# Altium integrated library TI Power Management Current Limited Switch.IntLib: 83 symbols (part 3 of 4)
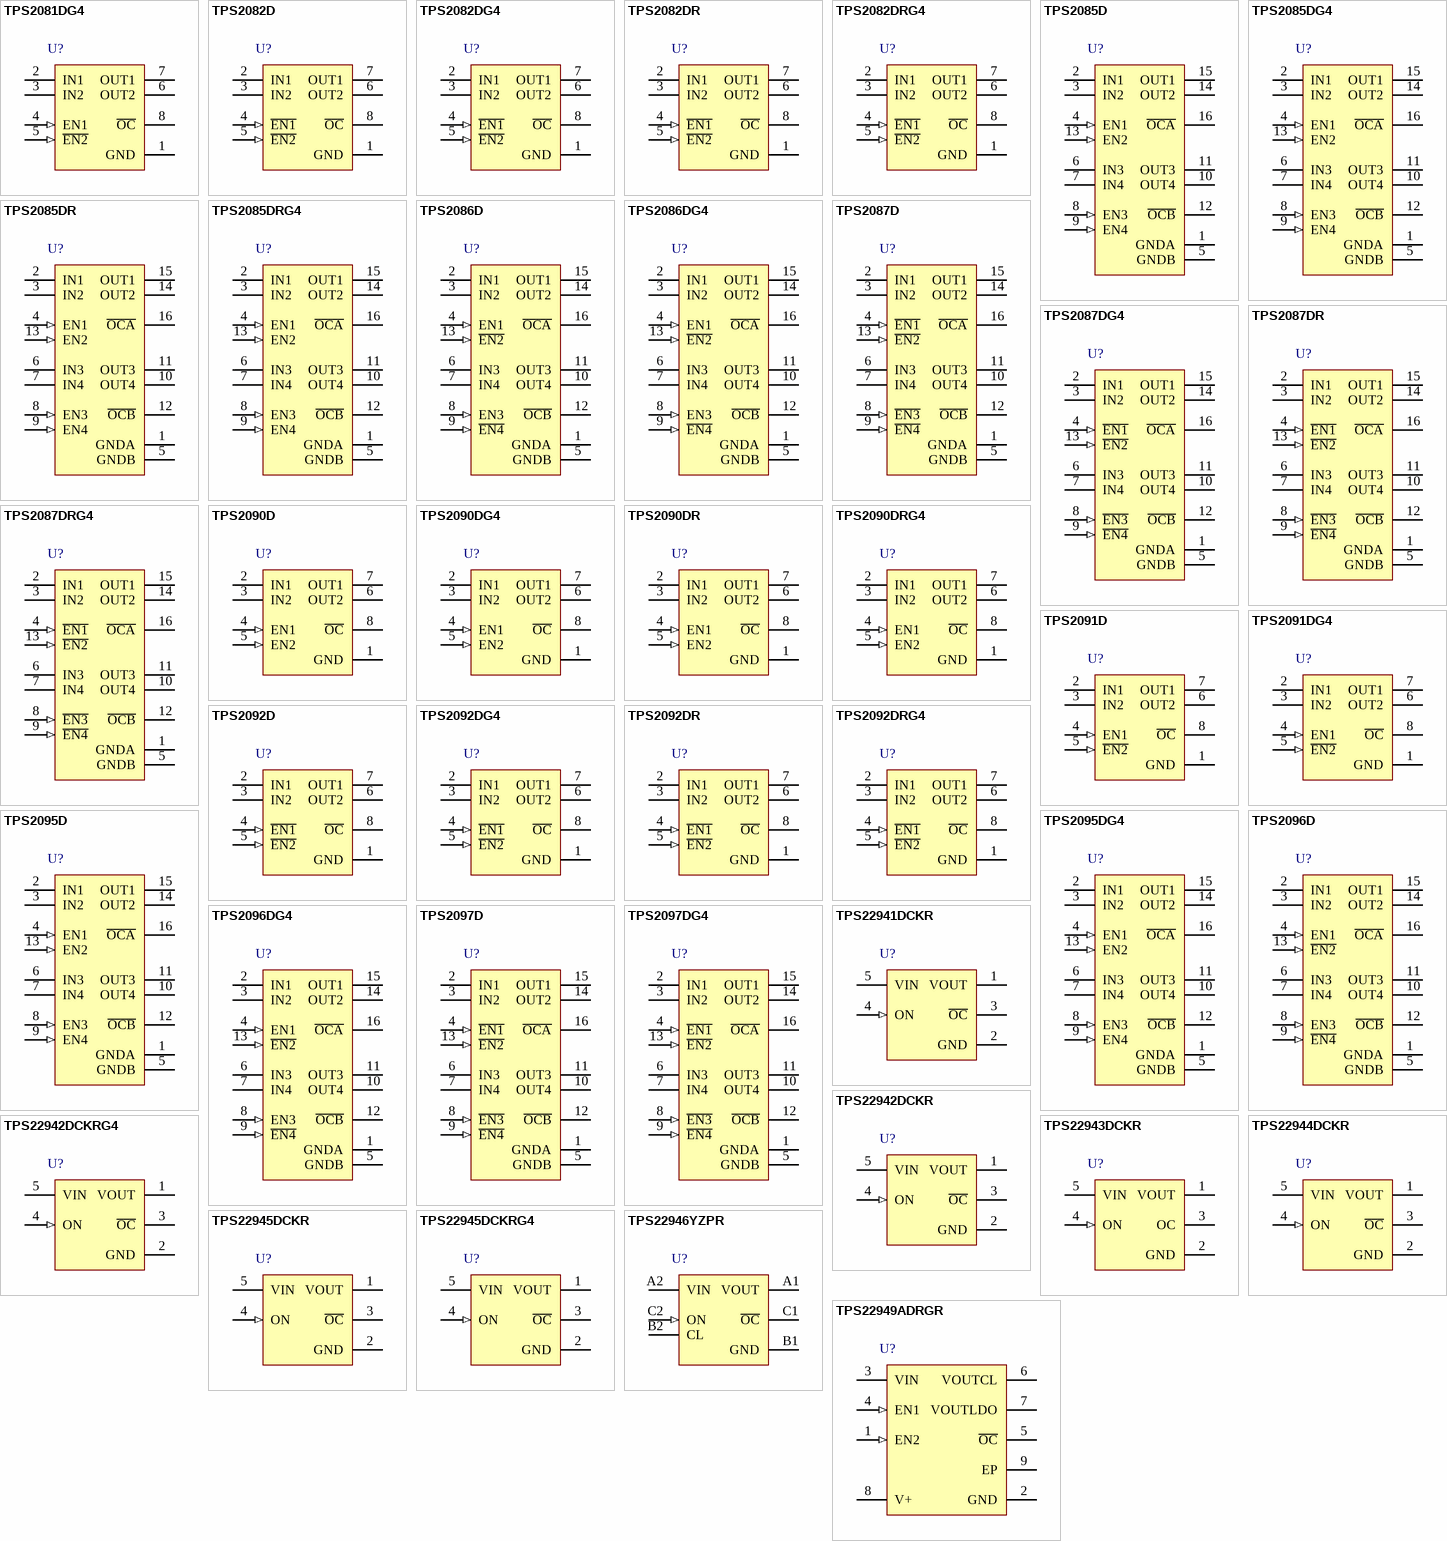
[diagram p4: symbols TPS2081DG4 to TPS22949ADRGR]

## TPS2090D
designator U?
0.3 A, 2.7 to 5.5 V Dual (2 Input / 2 Output) High-Side MOSFET Switch IC, Fault Reporting, 2 Act-Hi En, 80 mOhms rDS(On), 0 to 85 degC, 8-pin SOIC (D), Green (RoHS & no Sb/Br); Manufacturer: Texas Instruments; PartNumber: TPS2090D; Adjustable Current Limit(Min)(A): 0.3; Dual 2-Input, 2-Output": TRUE; Enable/Shutdown: 2H; Iq(Typ)(uA): 85; Number of FETs: 2; rDS(on) per FET(Typ)(mOhms): 80; SubFamily: Current Limited Switch; Vin(Max)(V): 5.5; Vin(Min)(V): 2.7; DatasheetVersion: SLVS245C; PackageVersion: revM, Jun-2011; PackageReference: D8; PackageDescription: 8-Pin Plastic Small Outline Integrated Circuit, 4.9 x 3.9 mm, Pitch 1.27 mm Pitch; Supplier 1: Digi-Key; Supplier Part Number 1: 296-3437-5-ND; Supplier 2: Newark; Supplier Part Number 2: 77C0053; Supplier 3: Mouser; Supplier Part Number 3: 595-TPS2090D; Eco-Plan: Green (RoHS & no Sb/Br); Over Current Reporting: TRUE; Over Temp Reporting: TRUE; Mounting Technology: Surface Mount; Code_JEDEC: MS-012AA; ComponentLink1Description: Datasheet; ComponentLink1URL: http://www.ti.com/general/docs/lit/getliterature.tsp?genericPartNumber=TPS2090&fileType=pdf
footprint D8_N (SOIC, 8-Leads, Body 4.9x3.9mm, Pitch 1.27mm, IPC Medium Density)
footprint D8_L (SOIC, 8-Leads, Body 4.9x3.9mm, Pitch 1.27mm, IPC High Density)
footprint D8_M (SOIC, 8-Leads, Body 4.9x3.9mm, Pitch 1.27mm, IPC Low Density)
pins: 1 GND (power) "Ground", 2 IN1 (power) "N-Channel MOSFET Drain", 3 IN2 (power) "N-Channel MOSFET Drain", 4 EN1 (in) "Enable input. Active high turns on power switch.", 5 EN2 (in) "Enable input. Active high turns on power switch.", 6 OUT2 (power) "Power-switch output", 7 OUT1 (power) "Power-switch output", 8 ~{OC} (oc) "Overcurrent. Open drain output active low"

## TPS2090DG4
designator U?
0.3 A, 2.7 to 5.5 V Dual (2 Input / 2 Output) High-Side MOSFET Switch IC, Fault Reporting, 2 Act-Hi En, 80 mOhms rDS(On), 0 to 85 degC, 8-pin SOIC (D), Green (RoHS & no Sb/Br); Manufacturer: Texas Instruments; PartNumber: TPS2090DG4; Adjustable Current Limit(Min)(A): 0.3; Dual 2-Input, 2-Output": TRUE; Enable/Shutdown: 2H; Iq(Typ)(uA): 85; Number of FETs: 2; rDS(on) per FET(Typ)(mOhms): 80; SubFamily: Current Limited Switch; Vin(Max)(V): 5.5; Vin(Min)(V): 2.7; DatasheetVersion: SLVS245C; PackageVersion: revM, Jun-2011; PackageReference: D8; PackageDescription: 8-Pin Plastic Small Outline Integrated Circuit, 4.9 x 3.9 mm, Pitch 1.27 mm Pitch; Supplier 1: Digi-Key; Supplier Part Number 1: TPS2090DG4-ND; Supplier 2: Newark; Supplier Part Number 2: 02M4303; Supplier 3: Mouser; Supplier Part Number 3: 595-TPS2090DG4; Eco-Plan: Green (RoHS & no Sb/Br); Over Current Reporting: TRUE; Over Temp Reporting: TRUE; Mounting Technology: Surface Mount; Code_JEDEC: MS-012AA; ComponentLink1Description: Datasheet; ComponentLink1URL: http://www.ti.com/general/docs/lit/getliterature.tsp?genericPartNumber=TPS2090&fileType=pdf
footprint D8_N (SOIC, 8-Leads, Body 4.9x3.9mm, Pitch 1.27mm, IPC Medium Density)
footprint D8_L (SOIC, 8-Leads, Body 4.9x3.9mm, Pitch 1.27mm, IPC High Density)
footprint D8_M (SOIC, 8-Leads, Body 4.9x3.9mm, Pitch 1.27mm, IPC Low Density)
pins: 1 GND (power) "Ground", 2 IN1 (power) "N-Channel MOSFET Drain", 3 IN2 (power) "N-Channel MOSFET Drain", 4 EN1 (in) "Enable input. Active high turns on power switch.", 5 EN2 (in) "Enable input. Active high turns on power switch.", 6 OUT2 (power) "Power-switch output", 7 OUT1 (power) "Power-switch output", 8 ~{OC} (oc) "Overcurrent. Open drain output active low"

## TPS2090DR
designator U?
0.3 A, 2.7 to 5.5 V Dual (2 Input / 2 Output) High-Side MOSFET Switch IC, Fault Reporting, 2 Act-Hi En, 80 mOhms rDS(On), 0 to 85 degC, 8-pin SOIC (D), Green (RoHS & no Sb/Br); Manufacturer: Texas Instruments; PartNumber: TPS2090DR; Adjustable Current Limit(Min)(A): 0.3; Dual 2-Input, 2-Output": TRUE; Enable/Shutdown: 2H; Iq(Typ)(uA): 85; Number of FETs: 2; rDS(on) per FET(Typ)(mOhms): 80; SubFamily: Current Limited Switch; Vin(Max)(V): 5.5; Vin(Min)(V): 2.7; DatasheetVersion: SLVS245C; PackageVersion: revM, Jun-2011; PackageReference: D8; PackageDescription: 8-Pin Plastic Small Outline Integrated Circuit, 4.9 x 3.9 mm, Pitch 1.27 mm Pitch; Supplier 1: Digi-Key; Supplier Part Number 1: TPS2090DR-ND; Supplier 2: Newark; Supplier Part Number 2: 77C0054; Supplier 3: Mouser; Supplier Part Number 3: 595-TPS2090DR; Eco-Plan: Green (RoHS & no Sb/Br); Over Current Reporting: TRUE; Over Temp Reporting: TRUE; Mounting Technology: Surface Mount; Code_JEDEC: MS-012AA; ComponentLink1Description: Datasheet; ComponentLink1URL: http://www.ti.com/general/docs/lit/getliterature.tsp?genericPartNumber=TPS2090&fileType=pdf
footprint D8_N (SOIC, 8-Leads, Body 4.9x3.9mm, Pitch 1.27mm, IPC Medium Density)
footprint D8_L (SOIC, 8-Leads, Body 4.9x3.9mm, Pitch 1.27mm, IPC High Density)
footprint D8_M (SOIC, 8-Leads, Body 4.9x3.9mm, Pitch 1.27mm, IPC Low Density)
pins: 1 GND (power) "Ground", 2 IN1 (power) "N-Channel MOSFET Drain", 3 IN2 (power) "N-Channel MOSFET Drain", 4 EN1 (in) "Enable input. Active high turns on power switch.", 5 EN2 (in) "Enable input. Active high turns on power switch.", 6 OUT2 (power) "Power-switch output", 7 OUT1 (power) "Power-switch output", 8 ~{OC} (oc) "Overcurrent. Open drain output active low"

## TPS2090DRG4
designator U?
0.3 A, 2.7 to 5.5 V Dual (2 Input / 2 Output) High-Side MOSFET Switch IC, Fault Reporting, 2 Act-Hi En, 80 mOhms rDS(On), 0 to 85 degC, 8-pin SOIC (D), Green (RoHS & no Sb/Br); Manufacturer: Texas Instruments; PartNumber: TPS2090DRG4; Adjustable Current Limit(Min)(A): 0.3; Dual 2-Input, 2-Output": TRUE; Enable/Shutdown: 2H; Iq(Typ)(uA): 85; Number of FETs: 2; rDS(on) per FET(Typ)(mOhms): 80; SubFamily: Current Limited Switch; Vin(Max)(V): 5.5; Vin(Min)(V): 2.7; DatasheetVersion: SLVS245C; PackageVersion: revM, Jun-2011; PackageReference: D8; PackageDescription: 8-Pin Plastic Small Outline Integrated Circuit, 4.9 x 3.9 mm, Pitch 1.27 mm Pitch; Supplier 1: Digi-Key; Supplier Part Number 1: TPS2090DRG4-ND; Supplier 2: Newark; Supplier Part Number 2: 33K7553; Supplier 3: Mouser; Supplier Part Number 3: 595-TPS2090DRG4; Eco-Plan: Green (RoHS & no Sb/Br); Over Current Reporting: TRUE; Over Temp Reporting: TRUE; Mounting Technology: Surface Mount; Code_JEDEC: MS-012AA; ComponentLink1Description: Datasheet; ComponentLink1URL: http://www.ti.com/general/docs/lit/getliterature.tsp?genericPartNumber=TPS2090&fileType=pdf
footprint D8_N (SOIC, 8-Leads, Body 4.9x3.9mm, Pitch 1.27mm, IPC Medium Density)
footprint D8_L (SOIC, 8-Leads, Body 4.9x3.9mm, Pitch 1.27mm, IPC High Density)
footprint D8_M (SOIC, 8-Leads, Body 4.9x3.9mm, Pitch 1.27mm, IPC Low Density)
pins: 1 GND (power) "Ground", 2 IN1 (power) "N-Channel MOSFET Drain", 3 IN2 (power) "N-Channel MOSFET Drain", 4 EN1 (in) "Enable input. Active high turns on power switch.", 5 EN2 (in) "Enable input. Active high turns on power switch.", 6 OUT2 (power) "Power-switch output", 7 OUT1 (power) "Power-switch output", 8 ~{OC} (oc) "Overcurrent. Open drain output active low"

## TPS2091D
designator U?
0.3 A, 2.7 to 5.5 V Dual (2 In / 2 Out) High-Side MOSFET Switch IC, Fault Report, 1 Act-Hi, 80 mOhms rDS(On), 0 to 85 degC, 8-pin SOIC (D), Green (RoHS & no Sb/Br); Manufacturer: Texas Instruments; PartNumber: TPS2091D; Adjustable Current Limit(Min)(A): 0.3; Dual 2-Input, 2-Output": TRUE; Enable/Shutdown: 1L, 1H; Iq(Typ)(uA): 85; Number of FETs: 2; rDS(on) per FET(Typ)(mOhms): 80; SubFamily: Current Limited Switch; Vin(Max)(V): 5.5; Vin(Min)(V): 2.7; DatasheetVersion: SLVS245C; PackageVersion: revM, Jun-2011; PackageReference: D8; PackageDescription: 8-Pin Plastic Small Outline Integrated Circuit, 4.9 x 3.9 mm, Pitch 1.27 mm Pitch; Supplier 1: Digi-Key; Supplier Part Number 1: 296-3438-5-ND; Supplier 2: Newark; Supplier Part Number 2: 77C0055; Supplier 3: Mouser; Supplier Part Number 3: 595-TPS2091D; Eco-Plan: Green (RoHS & no Sb/Br); Over Current Reporting: TRUE; Over Temp Reporting: TRUE; Mounting Technology: Surface Mount; Code_JEDEC: MS-012AA; ComponentLink1Description: Datasheet; ComponentLink1URL: http://www.ti.com/general/docs/lit/getliterature.tsp?genericPartNumber=TPS2091&fileType=pdf
footprint D8_N (SOIC, 8-Leads, Body 4.9x3.9mm, Pitch 1.27mm, IPC Medium Density)
footprint D8_L (SOIC, 8-Leads, Body 4.9x3.9mm, Pitch 1.27mm, IPC High Density)
footprint D8_M (SOIC, 8-Leads, Body 4.9x3.9mm, Pitch 1.27mm, IPC Low Density)
pins: 1 GND (power) "Ground", 2 IN1 (power) "N-Channel MOSFET Drain", 3 IN2 (power) "N-Channel MOSFET Drain", 4 EN1 (in) "Enable input. Active high turns on power switch.", 5 ~{EN2} (in) "Enable input. Active low turns on power switch.", 6 OUT2 (power) "Power-switch output", 7 OUT1 (power) "Power-switch output", 8 ~{OC} (oc) "Overcurrent. Open drain output active low"

## TPS2091DG4
designator U?
0.3 A, 2.7 to 5.5 V Dual (2 In / 2 Out) High-Side MOSFET Switch IC, Fault Report, 1 Act-Hi, 1 Act-Lo En, 80 mOhms rDS(On), 0 to 85 degC, 8-pin SOIC (D), Green (RoHS & no Sb/Br); Manufacturer: Texas Instruments; PartNumber: TPS2091DG4; Adjustable Current Limit(Min)(A): 0.3; Dual 2-Input, 2-Output": TRUE; Enable/Shutdown: 1L, 1H; Iq(Typ)(uA): 85; Number of FETs: 2; rDS(on) per FET(Typ)(mOhms): 80; SubFamily: Current Limited Switch; Vin(Max)(V): 5.5; Vin(Min)(V): 2.7; DatasheetVersion: SLVS245C; PackageVersion: revM, Jun-2011; PackageReference: D8; PackageDescription: 8-Pin Plastic Small Outline Integrated Circuit, 4.9 x 3.9 mm, Pitch 1.27 mm Pitch; Supplier 1: Digi-Key; Supplier Part Number 1: TPS2091DG4-ND; Supplier 2: Newark; Supplier Part Number 2: 70K5700; Supplier 3: Mouser; Supplier Part Number 3: 595-TPS2091DG4; Eco-Plan: Green (RoHS & no Sb/Br); Over Current Reporting: TRUE; Over Temp Reporting: TRUE; Mounting Technology: Surface Mount; Code_JEDEC: MS-012AA; ComponentLink1Description: Datasheet; ComponentLink1URL: http://www.ti.com/general/docs/lit/getliterature.tsp?genericPartNumber=TPS2091&fileType=pdf
footprint D8_N (SOIC, 8-Leads, Body 4.9x3.9mm, Pitch 1.27mm, IPC Medium Density)
footprint D8_L (SOIC, 8-Leads, Body 4.9x3.9mm, Pitch 1.27mm, IPC High Density)
footprint D8_M (SOIC, 8-Leads, Body 4.9x3.9mm, Pitch 1.27mm, IPC Low Density)
pins: 1 GND (power) "Ground", 2 IN1 (power) "N-Channel MOSFET Drain", 3 IN2 (power) "N-Channel MOSFET Drain", 4 EN1 (in) "Enable input. Active high turns on power switch.", 5 ~{EN2} (in) "Enable input. Active low turns on power switch.", 6 OUT2 (power) "Power-switch output", 7 OUT1 (power) "Power-switch output", 8 ~{OC} (oc) "Overcurrent. Open drain output active low"

## TPS2092D
designator U?
0.3 A, 2.7 to 5.5 V Dual (2 Input / 2 Output) High-Side MOSFET Switch IC, Fault Reporting, 80 mOhms rDS(On), 0 to 85 degC, 8-pin SOIC (D), Green (RoHS & no Sb/Br); Manufacturer: Texas Instruments; PartNumber: TPS2092D; Adjustable Current Limit(Min)(A): 0.3; Dual 2-Input, 2-Output": TRUE; Enable/Shutdown: 2L; Iq(Typ)(uA): 85; Number of FETs: 2; rDS(on) per FET(Typ)(mOhms): 80; SubFamily: Current Limited Switch; Vin(Max)(V): 5.5; Vin(Min)(V): 2.7; DatasheetVersion: SLVS245C; PackageVersion: revM, Jun-2011; PackageReference: D8; PackageDescription: 8-Pin Plastic Small Outline Integrated Circuit, 4.9 x 3.9 mm, Pitch 1.27 mm Pitch; Supplier 1: Digi-Key; Supplier Part Number 1: 296-3439-5-ND; Supplier 2: Newark; Supplier Part Number 2: 77C0057; Supplier 3: Mouser; Supplier Part Number 3: 595-TPS2092D; Eco-Plan: Green (RoHS & no Sb/Br); Over Current Reporting: TRUE; Over Temp Reporting: TRUE; Mounting Technology: Surface Mount; Code_JEDEC: MS-012AA; ComponentLink1Description: Datasheet; ComponentLink1URL: http://www.ti.com/general/docs/lit/getliterature.tsp?genericPartNumber=TPS2092&fileType=pdf
footprint D8_N (SOIC, 8-Leads, Body 4.9x3.9mm, Pitch 1.27mm, IPC Medium Density)
footprint D8_L (SOIC, 8-Leads, Body 4.9x3.9mm, Pitch 1.27mm, IPC High Density)
footprint D8_M (SOIC, 8-Leads, Body 4.9x3.9mm, Pitch 1.27mm, IPC Low Density)
pins: 1 GND (power) "Ground", 2 IN1 (power) "N-Channel MOSFET Drain", 3 IN2 (power) "N-Channel MOSFET Drain", 4 ~{EN1} (in) "Enable input. Active low turns on power switch", 5 ~{EN2} (in) "Enable input. Active low turns on power switch", 6 OUT2 (power) "Power-switch output", 7 OUT1 (power) "Power-switch output", 8 ~{OC} (oc) "Overcurrent. Open drain output active low"

## TPS2092DG4
designator U?
0.3 A, 2.7 to 5.5 V Dual (2 Input / 2 Output) High-Side MOSFET Switch IC, Fault Reporting, 80 mOhms rDS(On), 0 to 85 degC, 8-pin SOIC (D), Green (RoHS & no Sb/Br); Manufacturer: Texas Instruments; PartNumber: TPS2092DG4; Adjustable Current Limit(Min)(A): 0.3; Dual 2-Input, 2-Output": TRUE; Enable/Shutdown: 2L; Iq(Typ)(uA): 85; Number of FETs: 2; rDS(on) per FET(Typ)(mOhms): 80; SubFamily: Current Limited Switch; Vin(Max)(V): 5.5; Vin(Min)(V): 2.7; DatasheetVersion: SLVS245C; PackageVersion: revM, Jun-2011; PackageReference: D8; PackageDescription: 8-Pin Plastic Small Outline Integrated Circuit, 4.9 x 3.9 mm, Pitch 1.27 mm Pitch; Supplier 1: Digi-Key; Supplier Part Number 1: TPS2092DG4-ND; Supplier 2: Newark; Supplier Part Number 2: 81K4132; Supplier 3: Mouser; Supplier Part Number 3: 595-TPS2092DG4; Eco-Plan: Green (RoHS & no Sb/Br); Over Current Reporting: TRUE; Over Temp Reporting: TRUE; Mounting Technology: Surface Mount; Code_JEDEC: MS-012AA; ComponentLink1Description: Datasheet; ComponentLink1URL: http://www.ti.com/general/docs/lit/getliterature.tsp?genericPartNumber=TPS2092&fileType=pdf
footprint D8_N (SOIC, 8-Leads, Body 4.9x3.9mm, Pitch 1.27mm, IPC Medium Density)
footprint D8_L (SOIC, 8-Leads, Body 4.9x3.9mm, Pitch 1.27mm, IPC High Density)
footprint D8_M (SOIC, 8-Leads, Body 4.9x3.9mm, Pitch 1.27mm, IPC Low Density)
pins: 1 GND (power) "Ground", 2 IN1 (power) "N-Channel MOSFET Drain", 3 IN2 (power) "N-Channel MOSFET Drain", 4 ~{EN1} (in) "Enable input. Active low turns on power switch", 5 ~{EN2} (in) "Enable input. Active low turns on power switch", 6 OUT2 (power) "Power-switch output", 7 OUT1 (power) "Power-switch output", 8 ~{OC} (oc) "Overcurrent. Open drain output active low"

## TPS2092DR
designator U?
0.3 A, 2.7 to 5.5 V Dual (2 Input / 2 Output) High-Side MOSFET Switch IC, Fault Reporting, 80 mOhms rDS(On), 0 to 85 degC, 8-pin SOIC (D), Green (RoHS & no Sb/Br); Manufacturer: Texas Instruments; PartNumber: TPS2092DR; Adjustable Current Limit(Min)(A): 0.3; Dual 2-Input, 2-Output": TRUE; Enable/Shutdown: 2L; Iq(Typ)(uA): 85; Number of FETs: 2; rDS(on) per FET(Typ)(mOhms): 80; SubFamily: Current Limited Switch; Vin(Max)(V): 5.5; Vin(Min)(V): 2.7; DatasheetVersion: SLVS245C; PackageVersion: revM, Jun-2011; PackageReference: D8; PackageDescription: 8-Pin Plastic Small Outline Integrated Circuit, 4.9 x 3.9 mm, Pitch 1.27 mm Pitch; Supplier 1: Digi-Key; Supplier Part Number 1: TPS2092DR-ND; Supplier 2: Newark; Supplier Part Number 2: 77C0058; Supplier 3: Mouser; Supplier Part Number 3: 595-TPS2092DR; Eco-Plan: Green (RoHS & no Sb/Br); Over Current Reporting: TRUE; Over Temp Reporting: TRUE; Mounting Technology: Surface Mount; Code_JEDEC: MS-012AA; ComponentLink1Description: Datasheet; ComponentLink1URL: http://www.ti.com/general/docs/lit/getliterature.tsp?genericPartNumber=TPS2092&fileType=pdf
footprint D8_N (SOIC, 8-Leads, Body 4.9x3.9mm, Pitch 1.27mm, IPC Medium Density)
footprint D8_L (SOIC, 8-Leads, Body 4.9x3.9mm, Pitch 1.27mm, IPC High Density)
footprint D8_M (SOIC, 8-Leads, Body 4.9x3.9mm, Pitch 1.27mm, IPC Low Density)
pins: 1 GND (power) "Ground", 2 IN1 (power) "N-Channel MOSFET Drain", 3 IN2 (power) "N-Channel MOSFET Drain", 4 ~{EN1} (in) "Enable input. Active low turns on power switch", 5 ~{EN2} (in) "Enable input. Active low turns on power switch", 6 OUT2 (power) "Power-switch output", 7 OUT1 (power) "Power-switch output", 8 ~{OC} (oc) "Overcurrent. Open drain output active low"

## TPS2092DRG4
designator U?
0.3 A, 2.7 to 5.5 V Dual (2 Input / 2 Output) High-Side MOSFET Switch IC, Fault Reporting, 80 mOhms rDS(On), 0 to 85 degC, 8-pin SOIC (D), Green (RoHS & no Sb/Br); Manufacturer: Texas Instruments; PartNumber: TPS2092DRG4; Adjustable Current Limit(Min)(A): 0.3; Dual 2-Input, 2-Output": TRUE; Enable/Shutdown: 2L; Iq(Typ)(uA): 85; Number of FETs: 2; rDS(on) per FET(Typ)(mOhms): 80; SubFamily: Current Limited Switch; Vin(Max)(V): 5.5; Vin(Min)(V): 2.7; DatasheetVersion: SLVS245C; PackageVersion: revM, Jun-2011; PackageReference: D8; PackageDescription: 8-Pin Plastic Small Outline Integrated Circuit, 4.9 x 3.9 mm, Pitch 1.27 mm Pitch; Supplier 1: Digi-Key; Supplier Part Number 1: TPS2092DRG4-ND; Supplier 2: Newark; Supplier Part Number 2: 33K7555; Supplier 3: Mouser; Supplier Part Number 3: 595-TPS2092DRG4; Eco-Plan: Green (RoHS & no Sb/Br); Over Current Reporting: TRUE; Over Temp Reporting: TRUE; Mounting Technology: Surface Mount; Code_JEDEC: MS-012AA; ComponentLink1Description: Datasheet; ComponentLink1URL: http://www.ti.com/general/docs/lit/getliterature.tsp?genericPartNumber=TPS2092&fileType=pdf
footprint D8_N (SOIC, 8-Leads, Body 4.9x3.9mm, Pitch 1.27mm, IPC Medium Density)
footprint D8_L (SOIC, 8-Leads, Body 4.9x3.9mm, Pitch 1.27mm, IPC High Density)
footprint D8_M (SOIC, 8-Leads, Body 4.9x3.9mm, Pitch 1.27mm, IPC Low Density)
pins: 1 GND (power) "Ground", 2 IN1 (power) "N-Channel MOSFET Drain", 3 IN2 (power) "N-Channel MOSFET Drain", 4 ~{EN1} (in) "Enable input. Active low turns on power switch", 5 ~{EN2} (in) "Enable input. Active low turns on power switch", 6 OUT2 (power) "Power-switch output", 7 OUT1 (power) "Power-switch output", 8 ~{OC} (oc) "Overcurrent. Open drain output active low"

## TPS2095D
designator U?
0.3 A, 2.7 to 5.5 V Quad (4 Input / 4 Output) High-Side MOSFET Switch IC, Fault Reporting, 4 Act-Hi En, 80 mOhms rDS(On), 0 to 85 degC, 16-pin SOIC (D), Green (RoHS & no Sb/Br); Manufacturer: Texas Instruments; PartNumber: TPS2095D; Adjustable Current Limit(Min)(A): 0.3; Enable/Shutdown: 4H; Iq(Typ)(uA): 85; Number of FETs: 4; Over Current Reporting: TRUE; rDS(on) per FET(Typ)(mOhms): 80; SubFamily: Current Limited Switch; Vin(Max)(V): 5.5; Vin(Min)(V): 2.7; DatasheetVersion: SLVS245C; PackageVersion: revM, Jun-2011; PackageReference: D16; PackageDescription: 16-Pin Plastic Small Outline Integrated Circuit, 9.9 x 3.9 mm, Pitch 1.27 mm Pitch; Supplier 1: Digi-Key; Supplier Part Number 1: 296-3440-5-ND; Supplier 2: Newark; Supplier Part Number 2: 77C0059; Supplier 3: Mouser; Supplier Part Number 3: 595-TPS2095D; Eco-Plan: Green (RoHS & no Sb/Br); Over Temp Reporting: TRUE; Quad 4-Input, 4-Output: TRUE; Mounting Technology: Surface Mount; Code_JEDEC: MS-012AC; ComponentLink1Description: Datasheet; ComponentLink1URL: http://www.ti.com/general/docs/lit/getliterature.tsp?genericPartNumber=TPS2095&fileType=pdf
footprint D16_N (SOIC, 16-Leads, Body 9.9x3.9mm, Pitch 1.27mm, IPC Medium Density)
footprint D16_L (SOIC, 16-Leads, Body 9.9x3.9mm, Pitch 1.27mm, IPC High Density)
footprint D16_M (SOIC, 16-Leads, Body 9.9x3.9mm, Pitch 1.27mm, IPC Low Density)
pins: 1 GNDA (power) "Ground for IN1 and IN2 switch and circuitry", 2 IN1 (power) "N-channel MOSFET drain", 3 IN2 (power) "N-channel MOSFET drain", 4 EN1 (in) "Enable input. Active high turns on power switch", 5 GNDB (power) "Ground for IN3 and IN4 switch and circuitry", 6 IN3 (power) "N-channel MOSFET drain", 7 IN4 (power) "N-channel MOSFET drain", 8 EN3 (in) "Enable input. Active high turns on power switch", 9 EN4 (in) "Enable input. Active high turns on power switch", 10 OUT4 (power) "Power-switch output", 11 OUT3 (power) "Power-switch output", 12 ~{OCB} (oc) "Overcurrent indicator for switch 3 and switch 4. Active low open drain output", 13 EN2 (in) "Enable input. Active high turns on power switch", 14 OUT2 (power) "Power-switch output", 15 OUT1 (power) "Power-switch output", 16 ~{OCA} (oc) "Overcurrent indicator for switch 1 and switch 2. Active-low open drain output"

## TPS2095DG4
designator U?
0.3 A, 2.7 to 5.5 V Quad (4 Input / 4 Output) High-Side MOSFET Switch IC, Fault Reporting, 4 Act-Hi En, 80 mOhms rDS(On), 0 to 85 degC, 16-pin SOIC (D), Green (RoHS & no Sb/Br); Manufacturer: Texas Instruments; PartNumber: TPS2095DG4; Adjustable Current Limit(Min)(A): 0.3; Enable/Shutdown: 4H; Iq(Typ)(uA): 85; Number of FETs: 4; Over Current Reporting: TRUE; rDS(on) per FET(Typ)(mOhms): 80; SubFamily: Current Limited Switch; Vin(Max)(V): 5.5; Vin(Min)(V): 2.7; DatasheetVersion: SLVS245C; PackageVersion: revM, Jun-2011; PackageReference: D16; PackageDescription: 16-Pin Plastic Small Outline Integrated Circuit, 9.9 x 3.9 mm, Pitch 1.27 mm Pitch; Supplier 1: Digi-Key; Supplier Part Number 1: TPS2095DG4-ND; Supplier 2: Newark; Supplier Part Number 2: 28M7810; Supplier 3: Mouser; Supplier Part Number 3: 595-TPS2095DG4; Eco-Plan: Green (RoHS & no Sb/Br); Over Temp Reporting: TRUE; Quad 4-Input, 4-Output: TRUE; Mounting Technology: Surface Mount; Code_JEDEC: MS-012AC; ComponentLink1Description: Datasheet; ComponentLink1URL: http://www.ti.com/general/docs/lit/getliterature.tsp?genericPartNumber=TPS2095&fileType=pdf
footprint D16_N (SOIC, 16-Leads, Body 9.9x3.9mm, Pitch 1.27mm, IPC Medium Density)
footprint D16_L (SOIC, 16-Leads, Body 9.9x3.9mm, Pitch 1.27mm, IPC High Density)
footprint D16_M (SOIC, 16-Leads, Body 9.9x3.9mm, Pitch 1.27mm, IPC Low Density)
pins: 1 GNDA (power) "Ground for IN1 and IN2 switch and circuitry", 2 IN1 (power) "N-channel MOSFET drain", 3 IN2 (power) "N-channel MOSFET drain", 4 EN1 (in) "Enable input. Active high turns on power switch", 5 GNDB (power) "Ground for IN3 and IN4 switch and circuitry", 6 IN3 (power) "N-channel MOSFET drain", 7 IN4 (power) "N-channel MOSFET drain", 8 EN3 (in) "Enable input. Active high turns on power switch", 9 EN4 (in) "Enable input. Active high turns on power switch", 10 OUT4 (power) "Power-switch output", 11 OUT3 (power) "Power-switch output", 12 ~{OCB} (oc) "Overcurrent indicator for switch 3 and switch 4. Active low open drain output", 13 EN2 (in) "Enable input. Active high turns on power switch", 14 OUT2 (power) "Power-switch output", 15 OUT1 (power) "Power-switch output", 16 ~{OCA} (oc) "Overcurrent indicator for switch 1 and switch 2. Active-low open drain output"

## TPS2096D
designator U?
0.3 A, 2.7 to 5.5 V Quad (4 In / 4 Out) High-Side MOSFET Switch IC, Fault Report, 2 Act-Hi, 80 mOhms rDS(On), 0 to 85 degC, 16-pin SOIC (D), Green (RoHS & no Sb/Br); Manufacturer: Texas Instruments; PartNumber: TPS2096D; Adjustable Current Limit(Min)(A): 0.3; Enable/Shutdown: 2L, 2H; Iq(Typ)(uA): 85; Number of FETs: 4; Over Current Reporting: TRUE; rDS(on) per FET(Typ)(mOhms): 80; SubFamily: Current Limited Switch; Vin(Max)(V): 5.5; Vin(Min)(V): 2.7; DatasheetVersion: SLVS245C; PackageVersion: revM, Jun-2011; PackageReference: D16; PackageDescription: 16-Pin Plastic Small Outline Integrated Circuit, 9.9 x 3.9 mm, Pitch 1.27 mm Pitch; Supplier 1: Digi-Key; Supplier Part Number 1: 296-3441-5-ND; Supplier 2: Farnell; Supplier Part Number 2: 1755546; Supplier 3: Newark; Supplier Part Number 3: 34R9174; Supplier 4: Newark; Supplier Part Number 4: 77C0061; Supplier 5: Mouser; Supplier Part Number 5: 595-TPS2096D; Eco-Plan: Green (RoHS & no Sb/Br); Over Temp Reporting: TRUE; Quad 4-Input, 4-Output: TRUE; Mounting Technology: Surface Mount; Code_JEDEC: MS-012AC; ComponentLink1Description: Datasheet; ComponentLink1URL: http://www.ti.com/general/docs/lit/getliterature.tsp?genericPartNumber=TPS2096&fileType=pdf
footprint D16_N (SOIC, 16-Leads, Body 9.9x3.9mm, Pitch 1.27mm, IPC Medium Density)
footprint D16_L (SOIC, 16-Leads, Body 9.9x3.9mm, Pitch 1.27mm, IPC High Density)
footprint D16_M (SOIC, 16-Leads, Body 9.9x3.9mm, Pitch 1.27mm, IPC Low Density)
pins: 1 GNDA (power) "Ground for IN1 and IN2 switch and circuitry", 2 IN1 (power) "N-channel MOSFET drain", 3 IN2 (power) "N-channel MOSFET drain", 4 EN1 (in) "Enable input. Active high turns on power switch", 5 GNDB (power) "Ground for IN3 and IN4 switch and circuitry", 6 IN3 (power) "N-channel MOSFET drain", 7 IN4 (power) "N-channel MOSFET drain", 8 EN3 (in) "Enable input. Active high turns on power switch", 9 ~{EN4} (in) "Enable input. Active low turns on power switch", 10 OUT4 (power) "Power-switch output", 11 OUT3 (power) "Power-switch output", 12 ~{OCB} (oc) "Overcurrent indicator for switch 3 and switch 4. Active low open drain output", 13 ~{EN2} (in) "Enable input. Active low turns on power switch", 14 OUT2 (power) "Power-switch output", 15 OUT1 (power) "Power-switch output", 16 ~{OCA} (oc) "Overcurrent indicator for switch 1 and switch 2. Active-low open drain output"

## TPS2096DG4
designator U?
0.3 A, 2.7 to 5.5 V Quad (4 In / 4 Out) High-Side MOSFET Switch IC, Fault Report, 2 Act-Hi, 80 mOhms rDS(On), 0 to 85 degC, 16-pin SOIC (D), Green (RoHS & no Sb/Br); Manufacturer: Texas Instruments; PartNumber: TPS2096DG4; Adjustable Current Limit(Min)(A): 0.3; Enable/Shutdown: 2L, 2H; Iq(Typ)(uA): 85; Number of FETs: 4; Over Current Reporting: TRUE; rDS(on) per FET(Typ)(mOhms): 80; SubFamily: Current Limited Switch; Vin(Max)(V): 5.5; Vin(Min)(V): 2.7; DatasheetVersion: SLVS245C; PackageVersion: revM, Jun-2011; PackageReference: D16; PackageDescription: 16-Pin Plastic Small Outline Integrated Circuit, 9.9 x 3.9 mm, Pitch 1.27 mm Pitch; Supplier 1: Digi-Key; Supplier Part Number 1: TPS2096DG4-ND; Supplier 2: Newark; Supplier Part Number 2: 33K7557; Supplier 3: Mouser; Supplier Part Number 3: 595-TPS2096DG4; Eco-Plan: Green (RoHS & no Sb/Br); Over Temp Reporting: TRUE; Quad 4-Input, 4-Output: TRUE; Mounting Technology: Surface Mount; Code_JEDEC: MS-012AC; ComponentLink1Description: Datasheet; ComponentLink1URL: http://www.ti.com/general/docs/lit/getliterature.tsp?genericPartNumber=TPS2096&fileType=pdf
footprint D16_N (SOIC, 16-Leads, Body 9.9x3.9mm, Pitch 1.27mm, IPC Medium Density)
footprint D16_L (SOIC, 16-Leads, Body 9.9x3.9mm, Pitch 1.27mm, IPC High Density)
footprint D16_M (SOIC, 16-Leads, Body 9.9x3.9mm, Pitch 1.27mm, IPC Low Density)
pins: 1 GNDA (power) "Ground for IN1 and IN2 switch and circuitry", 2 IN1 (power) "N-channel MOSFET drain", 3 IN2 (power) "N-channel MOSFET drain", 4 EN1 (in) "Enable input. Active high turns on power switch", 5 GNDB (power) "Ground for IN3 and IN4 switch and circuitry", 6 IN3 (power) "N-channel MOSFET drain", 7 IN4 (power) "N-channel MOSFET drain", 8 EN3 (in) "Enable input. Active high turns on power switch", 9 ~{EN4} (in) "Enable input. Active low turns on power switch", 10 OUT4 (power) "Power-switch output", 11 OUT3 (power) "Power-switch output", 12 ~{OCB} (oc) "Overcurrent indicator for switch 3 and switch 4. Active low open drain output", 13 ~{EN2} (in) "Enable input. Active low turns on power switch", 14 OUT2 (power) "Power-switch output", 15 OUT1 (power) "Power-switch output", 16 ~{OCA} (oc) "Overcurrent indicator for switch 1 and switch 2. Active-low open drain output"

## TPS2097D
designator U?
0.3 A, 2.7 to 5.5 V Quad (4 Input / 4 Output) High-Side MOSFET Switch IC, Fault Reporting, 80 mOhms rDS(On), 0 to 85 degC, 16-pin SOIC (D), Green (RoHS & no Sb/Br); Manufacturer: Texas Instruments; PartNumber: TPS2097D; Adjustable Current Limit(Min)(A): 0.3; Enable/Shutdown: 4L; Iq(Typ)(uA): 85; Number of FETs: 4; Over Current Reporting: TRUE; rDS(on) per FET(Typ)(mOhms): 80; SubFamily: Current Limited Switch; Vin(Max)(V): 5.5; Vin(Min)(V): 2.7; DatasheetVersion: SLVS245C; PackageVersion: revM, Jun-2011; PackageReference: D16; PackageDescription: 16-Pin Plastic Small Outline Integrated Circuit, 9.9 x 3.9 mm, Pitch 1.27 mm Pitch; Supplier 1: Digi-Key; Supplier Part Number 1: 296-3442-5-ND; Supplier 2: Newark; Supplier Part Number 2: 77C0063; Supplier 3: Mouser; Supplier Part Number 3: 595-TPS2097D; Eco-Plan: Green (RoHS & no Sb/Br); Over Temp Reporting: TRUE; Quad 4-Input, 4-Output: TRUE; Mounting Technology: Surface Mount; Code_JEDEC: MS-012AC; ComponentLink1Description: Datasheet; ComponentLink1URL: http://www.ti.com/general/docs/lit/getliterature.tsp?genericPartNumber=TPS2097&fileType=pdf
footprint D16_N (SOIC, 16-Leads, Body 9.9x3.9mm, Pitch 1.27mm, IPC Medium Density)
footprint D16_L (SOIC, 16-Leads, Body 9.9x3.9mm, Pitch 1.27mm, IPC High Density)
footprint D16_M (SOIC, 16-Leads, Body 9.9x3.9mm, Pitch 1.27mm, IPC Low Density)
pins: 1 GNDA (power) "Ground for IN1 and IN2 switch and circuitry", 2 IN1 (power) "N-channel MOSFET drain", 3 IN2 (power) "N-channel MOSFET drain", 4 ~{EN1} (in) "Enable input. Active low turns on power switch", 5 GNDB (power) "Ground for IN3 and IN4 switch and circuitry", 6 IN3 (power) "N-channel MOSFET drain", 7 IN4 (power) "N-channel MOSFET drain", 8 ~{EN3} (in) "Enable input. Active low turns on power switch", 9 ~{EN4} (in) "Enable input. Active low turns on power switch", 10 OUT4 (power) "Power-switch output", 11 OUT3 (power) "Power-switch output", 12 ~{OCB} (oc) "Overcurrent indicator for switch 3 and switch 4. Active low open drain output", 13 ~{EN2} (in) "Enable input. Active low turns on power switch.", 14 OUT2 (power) "Power-switch output", 15 OUT1 (power) "Power-switch output", 16 ~{OCA} (oc) "Overcurrent indicator for switch 1 and switch 2. Active-low open drain output"

## TPS2097DG4
designator U?
0.3 A, 2.7 to 5.5 V Quad (4 Input / 4 Output) High-Side MOSFET Switch IC, Fault Reporting, 80 mOhms rDS(On), 0 to 85 degC, 16-pin SOIC (D), Green (RoHS & no Sb/Br); Manufacturer: Texas Instruments; PartNumber: TPS2097DG4; Adjustable Current Limit(Min)(A): 0.3; Enable/Shutdown: 4L; Iq(Typ)(uA): 85; Number of FETs: 4; Over Current Reporting: TRUE; rDS(on) per FET(Typ)(mOhms): 80; SubFamily: Current Limited Switch; Vin(Max)(V): 5.5; Vin(Min)(V): 2.7; DatasheetVersion: SLVS245C; PackageVersion: revM, Jun-2011; PackageReference: D16; PackageDescription: 16-Pin Plastic Small Outline Integrated Circuit, 9.9 x 3.9 mm, Pitch 1.27 mm Pitch; Supplier 1: Digi-Key; Supplier Part Number 1: TPS2097DG4-ND; Supplier 2: Newark; Supplier Part Number 2: 54K1552; Supplier 3: Mouser; Supplier Part Number 3: 595-TPS2097DG4; Eco-Plan: Green (RoHS & no Sb/Br); Over Temp Reporting: TRUE; Quad 4-Input, 4-Output: TRUE; Mounting Technology: Surface Mount; Code_JEDEC: MS-012AC; ComponentLink1Description: Datasheet; ComponentLink1URL: http://www.ti.com/general/docs/lit/getliterature.tsp?genericPartNumber=TPS2097&fileType=pdf
footprint D16_N (SOIC, 16-Leads, Body 9.9x3.9mm, Pitch 1.27mm, IPC Medium Density)
footprint D16_L (SOIC, 16-Leads, Body 9.9x3.9mm, Pitch 1.27mm, IPC High Density)
footprint D16_M (SOIC, 16-Leads, Body 9.9x3.9mm, Pitch 1.27mm, IPC Low Density)
pins: 1 GNDA (power) "Ground for IN1 and IN2 switch and circuitry", 2 IN1 (power) "N-channel MOSFET drain", 3 IN2 (power) "N-channel MOSFET drain", 4 ~{EN1} (in) "Enable input. Active low turns on power switch", 5 GNDB (power) "Ground for IN3 and IN4 switch and circuitry", 6 IN3 (power) "N-channel MOSFET drain", 7 IN4 (power) "N-channel MOSFET drain", 8 ~{EN3} (in) "Enable input. Active low turns on power switch", 9 ~{EN4} (in) "Enable input. Active low turns on power switch", 10 OUT4 (power) "Power-switch output", 11 OUT3 (power) "Power-switch output", 12 ~{OCB} (oc) "Overcurrent indicator for switch 3 and switch 4. Active low open drain output", 13 ~{EN2} (in) "Enable input. Active low turns on power switch.", 14 OUT2 (power) "Power-switch output", 15 OUT1 (power) "Power-switch output", 16 ~{OCA} (oc) "Overcurrent indicator for switch 1 and switch 2. Active-low open drain output"

## TPS22941DCKR
designator U?
Low-Input Voltage 40 mA Current Limited Load Switch with Shut-Off and Auto-Restart Features, 400 mOhms rDS(On), -40 to 85 degC, 5-pin SC70 (DCK), Green (RoHS & no Sb/Br); Manufacturer: Texas Instruments; PartNumber: TPS22941DCKR; Adjustable Current Limit(Min)(A): 0.04; Enable/Shutdown: Active Low; Iq(Typ)(uA): 40; Number of FETs: 1; rDS(on) per FET(Typ)(mOhms): 400; SubFamily: Current Limited Switch; Vin(Max)(V): 5.5; Vin(Min)(V): 1.62; DatasheetVersion: SLVS832C; PackageVersion: revG, Jan-2007; PackageReference: DCK5; PackageDescription: 5-Pin Plastic Small-Outline Package, 2 x 1.3 mm Body, 0.65 mm Pitch, 2.1 mm Lead Span; Supplier 1: Digi-Key; Supplier Part Number 1: 296-25217-2-ND; Supplier 2: Digi-Key; Supplier Part Number 2: 296-25217-1-ND; Supplier 3: Digi-Key; Supplier Part Number 3: 296-25217-6-ND; Supplier 4: Farnell; Supplier Part Number 4: 1778215; Supplier 5: Newark; Supplier Part Number 5: 34R2714; Supplier 6: Newark; Supplier Part Number 6: 50R8099; Supplier 7: Mouser; Supplier Part Number 7: 595-TPS22941DCKR; Eco-Plan: Green (RoHS & no Sb/Br); Mounting Technology: Surface Mount; Code_JEDEC: MO-203-AA; ComponentLink1Description: Datasheet; ComponentLink1URL: http://www.ti.com/general/docs/lit/getliterature.tsp?genericPartNumber=TPS22941&fileType=pdf
footprint DCK5_N (SOT353, 5-Leads, Body 2x1.3mm, Pitch 0.65mm, Lead Span 2.1mm, IPC Medium Density)
footprint DCK5_L (SOT353, 5-Leads, Body 2x1.3mm, Pitch 0.65mm, Lead Span 2.1mm, IPC High Density)
footprint DCK5_M (SOT353, 5-Leads, Body 2x1.3mm, Pitch 0.65mm, Lead Span 2.1mm, IPC Low Density)
pins: 1 VOUT (power) "Switch output: output of the power switch", 2 GND (power) "Ground", 3 ~{OC} (oc) "Over current output flag: active LOW, open drain output that indicates an over current, supply under voltage, or over temperature state.", 4 ON (in) "ON control input", 5 VIN (power) "Supply input: input to the power switch and the supply voltage for the IC"

## TPS22942DCKR
designator U?
Low-Input Voltage 100 mA Current Limited Load Switch with Shut-off and Auto-restart Feature, 400 mOhms rDS(On), -40 to 85 degC, 5-pin SC70 (DCK), Green (RoHS & no Sb/Br); Manufacturer: Texas Instruments; PartNumber: TPS22942DCKR; Adjustable Current Limit(Min)(A): 0.1; Enable/Shutdown: Active Low; Iq(Typ)(uA): 40; No Fault Reporting: TRUE; Number of FETs: 1; rDS(on) per FET(Typ)(mOhms): 400; SubFamily: Current Limited Switch; Vin(Max)(V): 5.5; Vin(Min)(V): 1.62; DatasheetVersion: SLVS832C; PackageVersion: revG, Jan-2007; PackageReference: DCK5; PackageDescription: 5-Pin Plastic Small-Outline Package, 2 x 1.3 mm Body, 0.65 mm Pitch, 2.1 mm Lead Span; Supplier 1: Digi-Key; Supplier Part Number 1: 296-24772-2-ND; Supplier 2: Digi-Key; Supplier Part Number 2: 296-24772-1-ND; Supplier 3: Digi-Key; Supplier Part Number 3: 296-24772-6-ND; Supplier 4: Farnell; Supplier Part Number 4: 1710810; Supplier 5: Newark; Supplier Part Number 5: 71P5337; Supplier 6: Mouser; Supplier Part Number 6: 595-TPS22942DCKR; Eco-Plan: Green (RoHS & no Sb/Br); Over Current Reporting: TRUE; Single: TRUE; Mounting Technology: Surface Mount; Code_JEDEC: MO-203-AA; ComponentLink1Description: Datasheet; ComponentLink1URL: http://www.ti.com/general/docs/lit/getliterature.tsp?genericPartNumber=TPS22942&fileType=pdf
footprint DCK5_N (SOT353, 5-Leads, Body 2x1.3mm, Pitch 0.65mm, Lead Span 2.1mm, IPC Medium Density)
footprint DCK5_L (SOT353, 5-Leads, Body 2x1.3mm, Pitch 0.65mm, Lead Span 2.1mm, IPC High Density)
footprint DCK5_M (SOT353, 5-Leads, Body 2x1.3mm, Pitch 0.65mm, Lead Span 2.1mm, IPC Low Density)
pins: 1 VOUT (power) "Switch output: output of the power switch", 2 GND (power) "Ground", 3 ~{OC} (oc) "Over current output flag: active LOW, open drain output that indicates an over current, supply under voltage, or over temperature state.", 4 ON (in) "ON control input", 5 VIN (power) "Supply input: input to the power switch and the supply voltage for the IC"

## TPS22942DCKRG4
designator U?
Low-Input Voltage 100 mA Current Limited Load Switch with Shut-off and Auto-Restart Feature, 400 mOhms rDS(On), -40 to 85 degC, 5-pin SC70 (DCK), Green (RoHS & no Sb/Br); Manufacturer: Texas Instruments; PartNumber: TPS22942DCKRG4; Adjustable Current Limit(Min)(A): 0.1; Enable/Shutdown: Active Low; Iq(Typ)(uA): 40; No Fault Reporting: TRUE; Number of FETs: 1; rDS(on) per FET(Typ)(mOhms): 400; SubFamily: Current Limited Switch; Vin(Max)(V): 5.5; Vin(Min)(V): 1.62; DatasheetVersion: SLVS832C; PackageVersion: revG, Jan-2007; PackageReference: DCK5; PackageDescription: 5-Pin Plastic Small-Outline Package, 2 x 1.3 mm Body, 0.65 mm Pitch, 2.1 mm Lead Span; Supplier 1: Digi-Key; Supplier Part Number 1: TPS22942DCKRG4-ND; Supplier 2: Mouser; Supplier Part Number 2: 595-TPS22942DCKRG4; Eco-Plan: Green (RoHS & no Sb/Br); Over Current Reporting: TRUE; Single: TRUE; Mounting Technology: Surface Mount; Code_JEDEC: MO-203-AA; ComponentLink1Description: Datasheet; ComponentLink1URL: http://www.ti.com/general/docs/lit/getliterature.tsp?genericPartNumber=TPS22942&fileType=pdf
footprint DCK5_N (SOT353, 5-Leads, Body 2x1.3mm, Pitch 0.65mm, Lead Span 2.1mm, IPC Medium Density)
footprint DCK5_L (SOT353, 5-Leads, Body 2x1.3mm, Pitch 0.65mm, Lead Span 2.1mm, IPC High Density)
footprint DCK5_M (SOT353, 5-Leads, Body 2x1.3mm, Pitch 0.65mm, Lead Span 2.1mm, IPC Low Density)
pins: 1 VOUT (power) "Switch output: output of the power switch", 2 GND (power) "Ground", 3 ~{OC} (oc) "Over current output flag: active LOW, open drain output that indicates an over current, supply under voltage, or over temperature state.", 4 ON (in) "ON control input", 5 VIN (power) "Supply input: input to the power switch and the supply voltage for the IC"

## TPS22943DCKR
designator U?
Low-Input Voltage 40 mA Current Limited Load Switch, 400 mOhms rDS(On), -40 to 85 degC, 5-pin SC70 (DCK), Green (RoHS & no Sb/Br); Manufacturer: Texas Instruments; PartNumber: TPS22943DCKR; Adjustable Current Limit(Min)(A): 0.04; Enable/Shutdown: Active High; Iq(Typ)(uA): 40; Number of FETs: 1; rDS(on) per FET(Typ)(mOhms): 400; SubFamily: Current Limited Switch; Vin(Max)(V): 5.5; Vin(Min)(V): 1.62; DatasheetVersion: SLVS832C; PackageVersion: revG, Jan-2007; PackageReference: DCK5; PackageDescription: 5-Pin Plastic Small-Outline Package, 2 x 1.3 mm Body, 0.65 mm Pitch, 2.1 mm Lead Span; Supplier 1: Digi-Key; Supplier Part Number 1: 296-25316-2-ND; Supplier 2: Digi-Key; Supplier Part Number 2: 296-25316-1-ND; Supplier 3: Digi-Key; Supplier Part Number 3: 296-25316-6-ND; Supplier 4: Farnell; Supplier Part Number 4: 1782839; Supplier 5: Newark; Supplier Part Number 5: 51R1165; Supplier 6: Mouser; Supplier Part Number 6: 595-TPS22943DCKR; Eco-Plan: Green (RoHS & no Sb/Br); Mounting Technology: Surface Mount; Code_JEDEC: MO-203-AA; ComponentLink1Description: Datasheet; ComponentLink1URL: http://www.ti.com/general/docs/lit/getliterature.tsp?genericPartNumber=TPS22943&fileType=pdf
footprint DCK5_N (SOT353, 5-Leads, Body 2x1.3mm, Pitch 0.65mm, Lead Span 2.1mm, IPC Medium Density)
footprint DCK5_L (SOT353, 5-Leads, Body 2x1.3mm, Pitch 0.65mm, Lead Span 2.1mm, IPC High Density)
footprint DCK5_M (SOT353, 5-Leads, Body 2x1.3mm, Pitch 0.65mm, Lead Span 2.1mm, IPC Low Density)
pins: 1 VOUT (power) "Switch output: output of the power switch", 2 GND (power) "Ground", 3 OC (oc) "Over current output flag: active LOW, open drain output that indicates an over current, supply under voltage, or over temperature state.", 4 ON (in) "ON control input", 5 VIN (power) "Supply input: input to the power switch and the supply voltage for the IC"

## TPS22944DCKR
designator U?
Low-Input Voltage 100 mA Current Limited Load Switch, 400 mOhms rDS(On), -40 to 85 degC, 5-pin SC70 (DCK), Green (RoHS & no Sb/Br); Manufacturer: Texas Instruments; PartNumber: TPS22944DCKR; Adjustable Current Limit(Min)(A): 0.1; Enable/Shutdown: Active High; Iq(Typ)(uA): 40; Number of FETs: 1; rDS(on) per FET(Typ)(mOhms): 400; SubFamily: Current Limited Switch; Vin(Max)(V): 5.5; Vin(Min)(V): 1.62; DatasheetVersion: SLVS832C; PackageVersion: revG, Jan-2007; PackageReference: DCK5; PackageDescription: 5-Pin Plastic Small-Outline Package, 2 x 1.3 mm Body, 0.65 mm Pitch, 2.1 mm Lead Span; Supplier 1: Digi-Key; Supplier Part Number 1: 296-25218-2-ND; Supplier 2: Digi-Key; Supplier Part Number 2: 296-25218-1-ND; Supplier 3: Digi-Key; Supplier Part Number 3: 296-25218-6-ND; Supplier 4: Farnell; Supplier Part Number 4: 1778216; Supplier 5: Newark; Supplier Part Number 5: 34R2715; Supplier 6: Newark; Supplier Part Number 6: 50R8100; Supplier 7: Mouser; Supplier Part Number 7: 595-TPS22944DCKR; Eco-Plan: Green (RoHS & no Sb/Br); Mounting Technology: Surface Mount; Code_JEDEC: MO-203-AA; ComponentLink1Description: Datasheet; ComponentLink1URL: http://www.ti.com/general/docs/lit/getliterature.tsp?genericPartNumber=TPS22944&fileType=pdf
footprint DCK5_N (SOT353, 5-Leads, Body 2x1.3mm, Pitch 0.65mm, Lead Span 2.1mm, IPC Medium Density)
footprint DCK5_L (SOT353, 5-Leads, Body 2x1.3mm, Pitch 0.65mm, Lead Span 2.1mm, IPC High Density)
footprint DCK5_M (SOT353, 5-Leads, Body 2x1.3mm, Pitch 0.65mm, Lead Span 2.1mm, IPC Low Density)
pins: 1 VOUT (power) "Switch output: output of the power switch", 2 GND (power) "Ground", 3 ~{OC} (oc) "Over current output flag: active LOW, open drain output that indicates an over current, supply under voltage, or over temperature state.", 4 ON (in) "ON control input", 5 VIN (power) "Supply input: input to the power switch and the supply voltage for the IC"

## TPS22945DCKR
designator U?
Low-Input Voltage Current Limited Load Switch with Shut-Off and Auto-Restart Features, 400 mOhms rDS(On), -40 to 85 degC, 5-pin SC70 (DCK), Green (RoHS & no Sb/Br); Manufacturer: Texas Instruments; PartNumber: TPS22945DCKR; Adjustable Current Limit(Min)(A): 0.1; Enable/Shutdown: Active High; Iq(Typ)(uA): 40; Number of FETs: 1; Over Current Reporting: TRUE; rDS(on) per FET(Typ)(mOhms): 400; SubFamily: Current Limited Switch; Vin(Max)(V): 5.5; Vin(Min)(V): 1.62; DatasheetVersion: SLVS832C; PackageVersion: revG, Jan-2007; PackageReference: DCK5; PackageDescription: 5-Pin Plastic Small-Outline Package, 2 x 1.3 mm Body, 0.65 mm Pitch, 2.1 mm Lead Span; Supplier 1: Digi-Key; Supplier Part Number 1: 296-24475-2-ND; Supplier 2: Digi-Key; Supplier Part Number 2: 296-24475-1-ND; Supplier 3: Digi-Key; Supplier Part Number 3: 296-24475-6-ND; Supplier 4: Farnell; Supplier Part Number 4: 1735580; Supplier 5: Newark; Supplier Part Number 5: 24R7786; Supplier 6: Newark; Supplier Part Number 6: 45P8260; Supplier 7: Mouser; Supplier Part Number 7: 595-TPS22945DCKR; Eco-Plan: Green (RoHS & no Sb/Br); Single: TRUE; Mounting Technology: Surface Mount; Code_JEDEC: MO-203-AA; ComponentLink1Description: Datasheet; ComponentLink1URL: http://www.ti.com/general/docs/lit/getliterature.tsp?genericPartNumber=TPS22945&fileType=pdf
footprint DCK5_N (SOT353, 5-Leads, Body 2x1.3mm, Pitch 0.65mm, Lead Span 2.1mm, IPC Medium Density)
footprint DCK5_L (SOT353, 5-Leads, Body 2x1.3mm, Pitch 0.65mm, Lead Span 2.1mm, IPC High Density)
footprint DCK5_M (SOT353, 5-Leads, Body 2x1.3mm, Pitch 0.65mm, Lead Span 2.1mm, IPC Low Density)
pins: 1 VOUT (power) "Switch output: output of the power switch", 2 GND (power) "Ground", 3 ~{OC} (oc) "Over current output flag: active LOW, open drain output that indicates an over current, supply under voltage, or over temperature state.", 4 ON (in) "ON control input", 5 VIN (power) "Supply input: input to the power switch and the supply voltage for the IC"

## TPS22945DCKRG4
designator U?
Low-Input Voltage Current Limited Load Switch with Shut-Off and Auto-Restart Features, 400 mOhms rDS(On), -40 to 85 degC, 5-pin SC70 (DCK), Green (RoHS & no Sb/Br); Manufacturer: Texas Instruments; PartNumber: TPS22945DCKRG4; Adjustable Current Limit(Min)(A): 0.1; Enable/Shutdown: Active High; Iq(Typ)(uA): 40; Number of FETs: 1; Over Current Reporting: TRUE; rDS(on) per FET(Typ)(mOhms): 400; SubFamily: Current Limited Switch; Vin(Max)(V): 5.5; Vin(Min)(V): 1.62; DatasheetVersion: SLVS832C; PackageVersion: revG, Jan-2007; PackageReference: DCK5; PackageDescription: 5-Pin Plastic Small-Outline Package, 2 x 1.3 mm Body, 0.65 mm Pitch, 2.1 mm Lead Span; Supplier 1: Digi-Key; Supplier Part Number 1: TPS22945DCKRG4-ND; Supplier 2: Mouser; Supplier Part Number 2: 595-TPS22945DCKRG4; Eco-Plan: Green (RoHS & no Sb/Br); Single: TRUE; Mounting Technology: Surface Mount; Code_JEDEC: MO-203-AA; ComponentLink1Description: Datasheet; ComponentLink1URL: http://www.ti.com/general/docs/lit/getliterature.tsp?genericPartNumber=TPS22945&fileType=pdf
footprint DCK5_N (SOT353, 5-Leads, Body 2x1.3mm, Pitch 0.65mm, Lead Span 2.1mm, IPC Medium Density)
footprint DCK5_L (SOT353, 5-Leads, Body 2x1.3mm, Pitch 0.65mm, Lead Span 2.1mm, IPC High Density)
footprint DCK5_M (SOT353, 5-Leads, Body 2x1.3mm, Pitch 0.65mm, Lead Span 2.1mm, IPC Low Density)
pins: 1 VOUT (power) "Switch output: output of the power switch", 2 GND (power) "Ground", 3 ~{OC} (oc) "Over current output flag: active LOW, open drain output that indicates an over current, supply under voltage, or over temperature state.", 4 ON (in) "ON control input", 5 VIN (power) "Supply input: input to the power switch and the supply voltage for the IC"

## TPS22946YZPR
designator U?
Ultra-Low Power, Low Input Voltage, Current Limited Load Switch, 300 mOhms rDS(On), -40 to 85 degC, 6-pin DSBGA (YZP), Green (RoHS & no Sb/Br); Manufacturer: Texas Instruments; PartNumber: TPS22946YZPR; Adjustable Current Limit(Min)(A): 0.155, 0.07, 0.03; Enable/Shutdown: Active High; Iq(Typ)(uA): 1; rDS(on) per FET(Typ)(mOhms): 300; SubFamily: Current Limited Switch; Vin(Max)(V): 5.5; Vin(Min)(V): 1.62; DatasheetVersion: SLVS984A; PackageVersion: revI, Feb-2012; PackageReference: YZP6; PackageDescription: 6-Ball Die-Size Ball Grid Array, 1.4 x 0.9 mm Body, 0.5 mm Pitch, Pb-Free; Supplier 1: Digi-Key; Supplier Part Number 1: 296-25219-2-ND; Supplier 2: Digi-Key; Supplier Part Number 2: 296-25219-1-ND; Supplier 3: Digi-Key; Supplier Part Number 3: 296-25219-6-ND; Supplier 4: Farnell; Supplier Part Number 4: 1778217; Supplier 5: Newark; Supplier Part Number 5: 34R2716; Supplier 6: Mouser; Supplier Part Number 6: 595-TPS22946YZPR; Eco-Plan: Green (RoHS & no Sb/Br); Number of FETs: 1; Mounting Technology: Surface Mount; ComponentLink1Description: Datasheet; ComponentLink1URL: http://www.ti.com/general/docs/lit/getliterature.tsp?genericPartNumber=TPS22946&fileType=pdf
footprint YZP6 (BGA, 6-Leads, Body 1.4x0.9mm, Pitch 0.5mm)
pins: A1 VOUT (power) "Output of the power switch", A2 VIN (power) "Supply. Input to the power switch and the supply voltage for the device", B1 GND (power) "Ground", B2 CL "Current limit selection. CL high is 155-mA current limit, CL low is 70-mA current limit, and CL floating is 30-mA current limit.", C1 ~{OC} (oc) "Over-current output flag. Active-low open-drain output that indicates an over-current, supply under-voltage, or over-temperature state.", C2 ON (in) "On/off control input"

## TPS22949ADRGR
designator U?
Current Limited Load Switch with Low Noise Regulation Capability and Inrush Current Limit, 300 mOhms rDS(ON), -40 to 85 degC, 8-pin SON (DRG), Green (RoHS & no Sb/Br); Manufacturer: Texas Instruments; PartNumber: TPS22949ADRGR; Adjustable Current Limit(Min)(A): 0.1; Enable/Shutdown: Active High; Iq(Typ)(uA): 85; Number of FETs: 2; rDS(on) per FET(Typ)(mOhms): 300; SubFamily: Current Limited Switch; Vin(Max)(V): 4.5; Vin(Min)(V): 1.62; DatasheetVersion: SLVS908C; PackageVersion: revC, Dec-2010; PackageReference: DRG8-2000X1200TP; PackageDescription: 8-Pin Plastic Small Outline No-Lead, 3 x 3 x 0.8 mm Body,  0.5 mm Pitch, Exposed Pad; Supplier 1: Digi-Key; Supplier Part Number 1: 296-25317-2-ND; Supplier 2: Digi-Key; Supplier Part Number 2: 296-25317-1-ND; Supplier 3: Digi-Key; Supplier Part Number 3: 296-25317-6-ND; Supplier 4: Farnell; Supplier Part Number 4: 1782840; Supplier 5: Newark; Supplier Part Number 5: 51R1166; Supplier 6: Mouser; Supplier Part Number 6: 595-TPS22949ADRGR; Eco-Plan: Green (RoHS & no Sb/Br); Mounting Technology: Surface Mount; Code_JEDEC: MO-229; ComponentLink1Description: Datasheet; ComponentLink1URL: http://www.ti.com/general/docs/lit/getliterature.tsp?genericPartNumber=TPS22949A&fileType=pdf
footprint DRG8-2000X1200TP (SON, 8-Leads, Body 3x3mm, Pitch 0.5mm, Thermal Pad 2x1.2mm, TI Recommended)
pins: 1 EN2 (in) "LDO control input. Active high. Do not leave floating.", 2 GND (power) "Ground", 3 VIN (power) "Supply input. Input to the power switch; bypass this input with a ceramic capacitor to ground.", 4 EN1 (in) "Power switch control input. Active high. Do not leave floating.", 5 ~{OC} (oc) "Over current output flag. Active low, open-drain output that indicates an over-current, supply undervoltage, or over-temperature state.", 6 VOUTCL (power) "Switch output. Output of the power switch", 7 VOUTLDO (power) "LDO output. Output of the RF LDO fixed to 1.8 V(1).", 8 V+ (power) "Supply voltage", 9 EP "Exposed Thermal Pad"

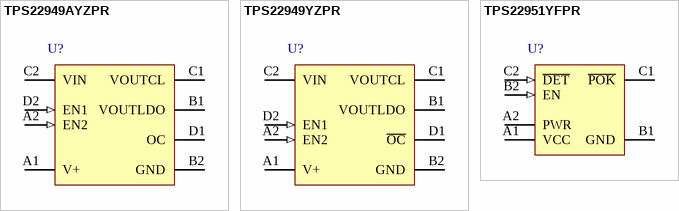
[diagram p2: symbols TPS22949AYZPR to TPS22951YFPR]